# Altium footprint library PcbLib1.PcbLib: 22 footprints (part 1 of 2)
Each footprint in its own frame and in the unit in brackets; x right, y up, seen from the top. Pads: shape width x height; smd on the part's side, far side on the other; paste and mask are expansions set on the pad; w line width, h text height; cw(c..) or ccw(c..) is an arc to the next point about the centre after c.
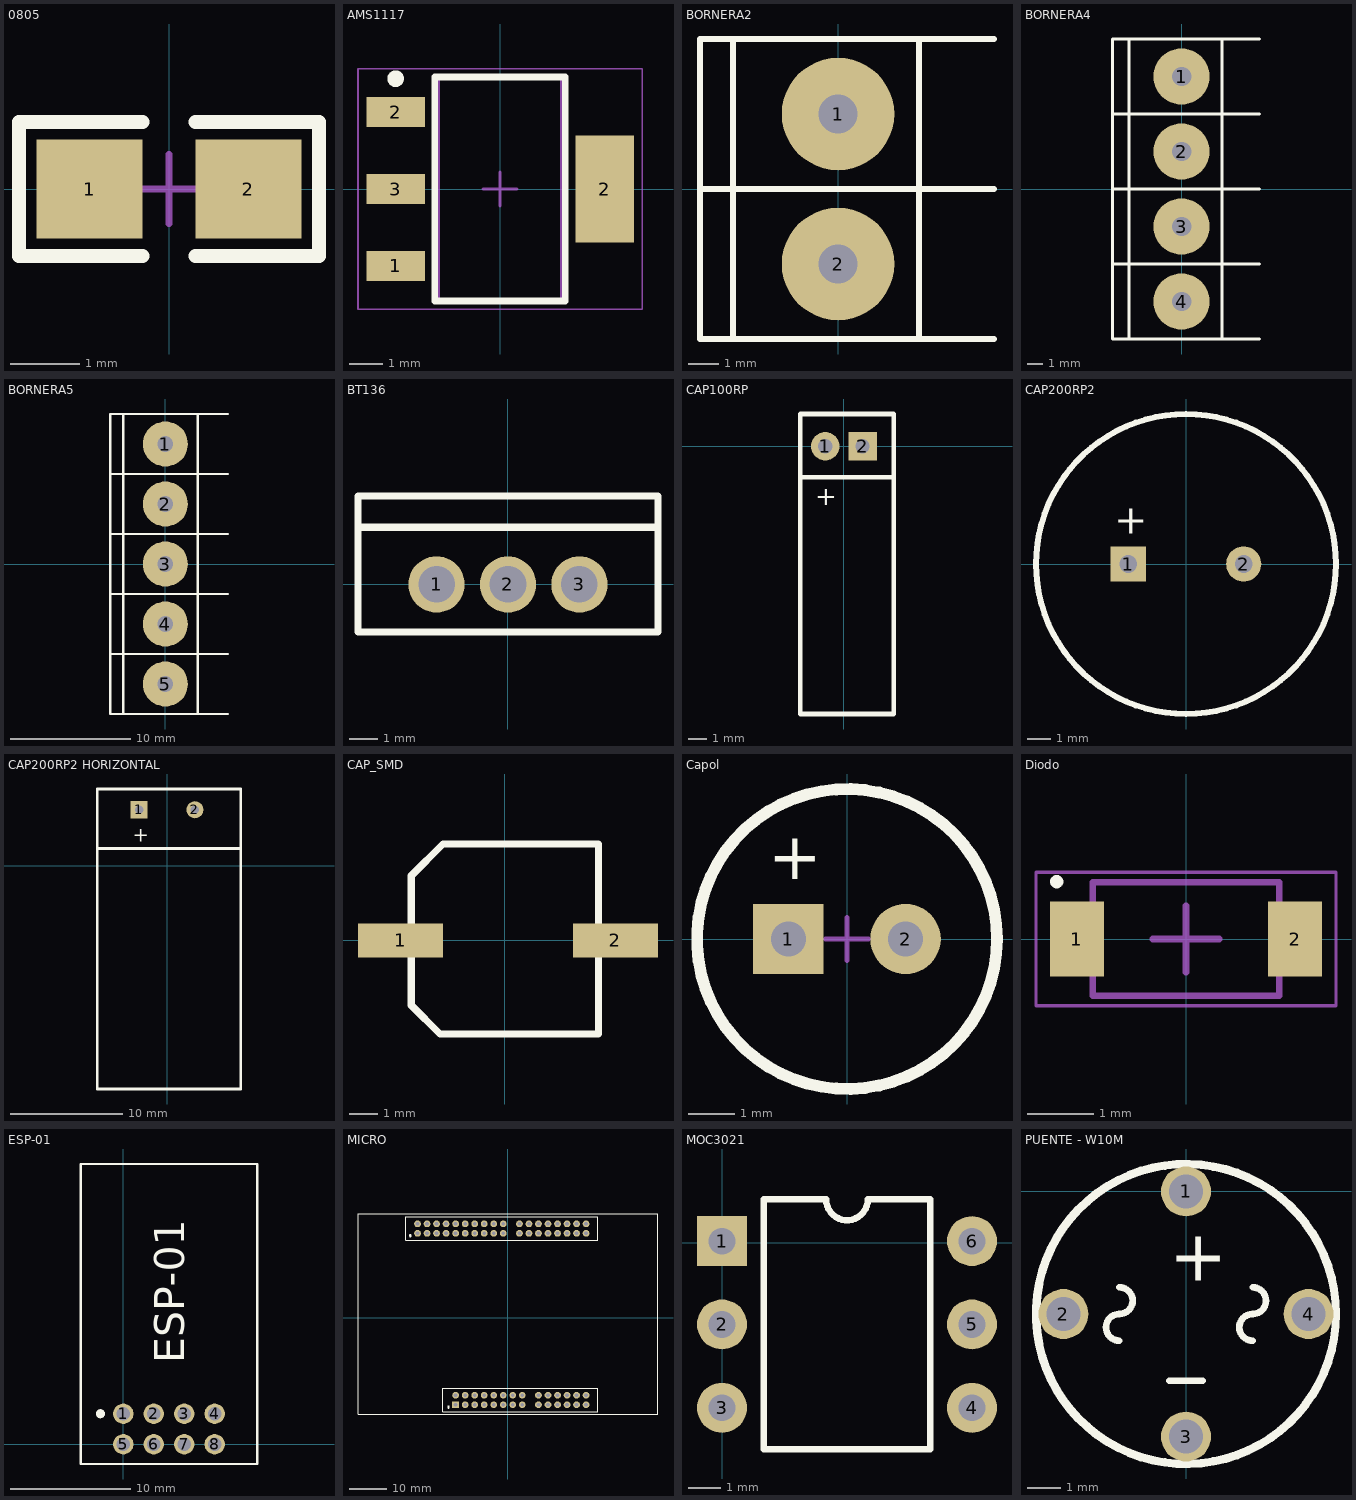
[diagram p0: the footprints below, top view; thin cyan lines are the x and y axes]

## 0805 [mil] "Pasivo 0805"
height 27.56
pads (2):
  rect 60x56 smd: 1(-45,0) 2(45,0)
Top Overlay:
  lines w7.87: -85,-38 -85,38 -15,38 ; -84,-38 -15,-38 ; 15,-38 85,-38 85,38 15,38
Mechanical 15:
  lines w3.94: -19.69,0 19.68,0 ; 0,-19.68 0,19.68
3D body: height 15.35, standoff -0.79, extent -39.5,-24.5 39.24,24.71

## AMS1117 [mm] "SOT223, 4-Leads, Body 6,50x7,00mm (avg), Pitch 2,30mm, IPC Medium Density"
height 1.8
pads (4):
  rect 1.75x0.9 smd: 1(-3.125,-2.3) 2(-3.125,2.3) 3(-3.125,0)
  rect 1.75x3.2 smd: 2(3.125,0)
Top Overlay:
  circle w0.25: c-3.125,3.3 r0.125
  lines w0.2: -1.95,-3.35 -1.95,3.35 1.95,3.35 1.95,-3.35 -1.95,-3.35
Mechanical 13:
  lines w0.1: -1.85,-3.35 -1.85,3.35 1.85,3.35 1.85,-3.35 -1.85,-3.35
Mechanical 15:
  lines w0.05: -4.25,-3.6 -4.25,3.6 4.25,3.6 4.25,-3.6 -4.25,-3.6
  lines w0.1: -0.5,0 0.5,0 ; 0,-0.5 0,0.5
3D body: height 1.7, standoff 0.02, extent -3.48,-3.25 3.48,3.25

## BORNERA2 [mm] "Bornera con Tornillos 5mm separaci�n"
pads (2):
  round 3.75 hole 1.3: 1(0,2.5) 2(0,-2.5)
Top Overlay:
  lines w0.2: -4.6,0 5.2,0 ; -3.5,-5 -3.5,5 ; 2.7,-5 2.7,5 ; 5.2,-5 -4.6,-5 -4.6,5 5.2,5
3D body: height 10, standoff -2.28, extent -3.763,-4.892 3.937,5.607

## BORNERA4 [mm] "Bornera con Tornillos 5mm separaci�n"
pads (4):
  round 3.75 hole 1.3: 1(0,7.5) 2(0,2.5) 3(0,-2.5) 4(0,-7.5)
Top Overlay:
  lines w0.2: -4.6,-5 5.2,-5 ; -4.6,0 5.2,0 ; -4.6,5 5.2,5 ; -3.5,-10 -3.5,10 ; 2.7,-10 2.7,10 ; 5.2,-10 -4.6,-10 -4.6,10 5.2,10
3D body: height 10, standoff -2.28, extent -3.763,-9.892 3.937,0.607
3D body: height 10, standoff -2.28, extent -3.763,0.108 3.937,10.607

## BORNERA5 [mm] "Bornera con Tornillos 5mm separaci�n"
pads (5):
  round 3.75 hole 1.3: 1(0,10) 2(0,5) 3(0,0) 4(0,-5) 5(0,-10)
Top Overlay:
  lines w0.2: -4.6,-7.5 5.2,-7.5 ; -4.6,-2.5 5.2,-2.5 ; -4.6,2.5 5.2,2.5 ; -4.6,7.5 5.2,7.5 ; -3.5,-12.5 -3.5,12.5 ; 2.7,-12.5 2.7,12.5 ; 5.2,-12.5 -4.6,-12.5 -4.6,12.5 5.2,12.5
3D body: height 10.05, standoff -2.24, extent -3.763,-2.392 3.937,13.107
3D body: height 10, standoff -2.28, extent -3.763,-12.392 3.937,-1.893

## BT136 [mm]
pads (3):
  round 2 hole 1.3: 1(-2.54,0) 2(0,0) 3(2.54,0)
Top Overlay:
  lines w0.254: -5.334,2.032 5.336,2.032 ; 5.333,-1.689 5.333,3.141 ; 5.335,-1.689 -5.335,-1.689 -5.335,3.141 5.335,3.141
3D body: height 22.76, standoff -8.23, extent -5.207,-1.651 5.463,3.179

## CAP100RP [mil] "Body diameter 5mm"
pads (2):
  round 60 hole 30: 1(-39.37,0)
  rect 60x60 hole 30: 2(39.37,0)
Top Overlay:
  lines w10: -91,-65.26 99,-65.26 ; -92,-565 -92,-20 -92,68 105,68 105,-565 -92,-565
  text "+" at -60,-125 h40
3D body: height 219.57, standoff 17.06, extent -97.47,-566 107.47,-65

## CAP200RP2 [mil] "Body Diameter 12.5mm"
pads (2):
  rect 60x60 hole 30: 1(-98.43,0)
  round 60 hole 30: 2(98.43,0)
Top Overlay:
  circle w10: c0,0 r255.91
  text "+" at -122,52 h50
3D body: height 62.99, standoff -78.74, extent -110.14,-11.76 -86.61,11.81
3D body: height 62.99, standoff -78.74, extent 86.71,-11.76 110.24,11.81
3D body: height 818.9, standoff -27.56, extent -260.81,-260.2 250.82,250.85

## CAP200RP2 HORIZONTAL [mil] "Body Diameter 12.5mm"
pads (2):
  rect 60x60 hole 30: 1(-98.43,196.85)
  round 60 hole 30: 2(98.42,196.85)
Top Overlay:
  lines w10: -246.06,61.45 -246.06,-786.91 260,-786.91 260,-15.38 260.01,270 -246.06,270 -246.06,60 260,60
  text "+" at -120,85 h50
3D body: height 511.76, standoff 0.71, extent -245.81,-785 265.81,61.45
3D body: height 62.99, standoff -78.74, extent -110.15,185.09 -86.62,208.66
3D body: height 62.99, standoff -78.74, extent 86.7,185.09 110.23,208.66

## CAP_SMD [mm]
pads (2):
  rect 3x1.2 smd: 1(-3.683,0) 2(3.899,0)
Top Overlay:
  lines w0.254: -3.302,-2.286 -2.286,-3.302 3.302,-3.302 3.302,3.404 -2.184,3.404 -3.302,2.286 -3.302,-2.286
3D body: height 8.05, standoff 0, extent -3.899,-3.403 3.899,3.404

## Capol [mil] "Body diameter 6.5mm"
pads (2):
  rect 60x60 hole 30: 1(-50,0)
  round 60 hole 30: 2(50,0)
Top Overlay:
  circle w10: c0,0 r127.95
  text "+" at -67,51 h40
Mechanical 15:
  lines w3.94: -18.7,0 18.7,0 ; 0,-18.7 0,18.7
3D body: height 453.76, standoff -118.67, extent -124,-125.02 126.03,125.02

## Diodo [mm] "SODFL, 2-Leads, Body 1,60x3,60mm, IPC Medium Density"
height 1.3
pads (2):
  rect 0.81x1.12 smd: 1(-1.635,0) 2(1.635,0)
Top Overlay:
  circle w0.1: c-1.94,0.86 r0.05
Mechanical 13:
  lines w0.1: -1.4,-0.85 -1.4,0.85 1.4,0.85 1.4,-0.85 -1.4,-0.85
Mechanical 15:
  lines w0.05: -2.25,-1 -2.25,1 2.25,1 2.25,-1 -2.25,-1
  lines w0.1: -0.5,0 0.5,0 ; 0,-0.5 0,0.5
3D body: height 1.3, standoff 0, extent -1.4,-0.85 1.4,0.85

## ESP-01 [mm]
pads (8):
  round 1.7 hole 1.1: 1(0,2.54) 2(2.54,2.54) 3(5.08,2.54) 4(7.62,2.54) 5(0,0) 6(2.54,0) 7(5.08,0) 8(7.62,0)
Top Overlay:
  circle w0.254: c-1.905,2.54 r0.254
  circle w0.254: c-1.905,2.54 r0.125
  lines w0.2: -3.556,-1.651 -3.556,23.368 11.176,23.368 11.176,-1.651 -3.556,-1.651
  text "ESP-01" at 5.08,6.731 h2.5
3D body: height 14.88, standoff 3.2, extent -3.429,-1.524 11.071,23.276
3D body: height 8.93, standoff -2.77, extent -1.279,-1.397 6.359,3.683
3D body: height 8.93, standoff -2.77, extent 1.261,-1.397 8.899,3.683

## MICRO [mm]
pads (64):
  rect 1.8x1.8 hole 1: 1(-13.843,-23.241)
  round 1.8 hole 1: 2(-13.843,-20.701) 3(-11.303,-23.241) 4(-11.303,-20.701) 5(-8.763,-23.241) 6(-8.763,-20.701) 7(-6.223,-23.241) 8(-6.223,-20.701) 9(-3.683,-23.241) 10(-3.683,-20.701) 11(-1.143,-23.241) 12(-1.143,-20.701) 13(1.397,-23.241) 14(1.397,-20.701) 15(3.937,-23.241) 16(3.937,-20.701) 17(8.255,-23.241) 18(8.255,-20.701) 19(10.795,-23.241) 20(10.795,-20.701) 21(13.335,-23.241) 22(13.335,-20.701) 23(15.875,-23.241) 24(15.875,-20.701) 25(18.415,-23.241) 26(18.415,-20.701) 27(20.955,-23.241) 28(20.955,-20.701) 29(-24.003,22.479) 30(-24.003,25.019) 31(-21.463,22.479) 32(-21.463,25.019) 33(-18.923,22.479) 34(-18.923,25.019) 35(-16.383,22.479) 36(-16.383,25.019) 37(-13.843,22.479) 38(-13.843,25.019) 39(-11.303,22.479) 40(-11.303,25.019) 41(-8.763,22.479) 42(-8.763,25.019) 43(-6.223,22.479) 44(-6.223,25.019) 45(-3.683,22.479) 46(-3.683,25.019) 47(-1.143,22.479) 48(-1.143,25.019) 49(3.175,22.479) 50(3.175,25.019) 51(5.715,22.479) 52(5.715,25.019) 53(8.255,22.479) 54(8.255,25.019) 55(10.795,22.479) 56(10.795,25.019) 57(13.335,22.479) 58(13.335,25.019) 59(15.875,22.479) 60(15.875,25.019) 61(18.415,22.479) 62(18.415,25.019) 63(20.955,22.479) 64(20.955,25.019)
Top Overlay:
  circle w0.254: c-15.836,-23.876 r0.125
  circle w0.254: c-15.748,-23.876 r0.254
  circle w0.254: c-25.996,21.844 r0.125
  circle w0.254: c-25.908,21.844 r0.254
  lines w0.2: 5.08,-25.146 24.13,-25.146 24.13,-18.796 5.08,-18.796 ; 6.858,-25.146 -17.272,-25.146 -17.272,-18.796 6.858,-18.796 ; -27.178,20.574 24.13,20.574 24.13,26.924 -27.178,26.924 -27.178,20.574
  lines w0.254: -39.878,-25.781 -39.878,27.719 ; -39.878,27.686 40.122,27.686 ; -39.868,-25.781 40.132,-25.781 40.132,27.719
3D body: height 1.5, standoff -10.1, extent -25.273,21.209 -17.653,26.289
3D body: height 1.5, standoff -10.1, extent -17.653,21.209 -10.033,26.289
3D body: height 1.5, standoff -10.1, extent -10.033,21.209 -2.413,26.289
3D body: height 1.5, standoff -10.1, extent -7.493,21.209 0.127,26.289
3D body: height 1.5, standoff -10.1, extent 1.905,21.209 9.525,26.289
3D body: height 1.5, standoff -10.1, extent 9.525,21.209 17.145,26.289
3D body: height 1.5, standoff -10.1, extent 14.605,21.209 22.225,26.289
3D body: height 1.5, standoff -10.1, extent -15.113,-24.511 -7.493,-19.431
3D body: height 1.5, standoff -10.1, extent -7.493,-24.511 0.127,-19.431
3D body: height 1.5, standoff -10.1, extent -2.413,-24.511 5.207,-19.431
3D body: height 1.5, standoff -10.1, extent 6.985,-24.511 14.605,-19.431
3D body: height 1.5, standoff -10.1, extent 14.605,-24.511 22.225,-19.431

## MOC3021 [mil]
pads (6):
  rect 60x60 hole 32: 1(0,2)
  round 60 hole 32: 2(0,-98) 3(0,-198) 4(300,-198) 5(300,-98) 6(300,2)
Top Overlay:
  lines w7.87: 50,-248 50,52 125,52 ccw(c150,52) 175,52 250,52 250,-248 50,-248
3D body: height 208.66, standoff -98.03, extent -5.24,-267.46 305,79

## PUENTE - W10M [mm]
pads (4):
  round 1.5 hole 1.016: 1(0,0) 2(-3.677,-3.677) 3(0,-7.354) 4(3.677,-3.677)
Top Overlay:
  circle w0.254: c0,-3.677 r4.5
  lines w0.2: -2,-4.477 cw(c-2,-4.077) -2.4,-4.077 cw(c-2,-4.077) -2,-3.677 ccw(c-2,-3.277) -1.6,-3.277 ccw(c-2,-3.277) -2,-2.877 ; -0.5,-5.677 0.5,-5.677 ; 2,-4.477 cw(c2,-4.077) 1.6,-4.077 cw(c2,-4.077) 2,-3.677 ccw(c2,-3.277) 2.4,-3.277 ccw(c2,-3.277) 2,-2.877
  text "+" at -0.5,-2.677 h1.52
3D body: height 5.6, standoff -3.5, extent -6.576,-10.132 6.576,3.02